# Altium footprint library Screw-M2.PcbLib: 49 footprints (part 3 of 4)
Each footprint in its own frame and in the unit in brackets; x right, y up, seen from the top. Pads: shape width x height; smd on the part's side, far side on the other; paste and mask are expansions set on the pad; w line width, h text height; cw(c..) or ccw(c..) is an arc to the next point about the centre after c.
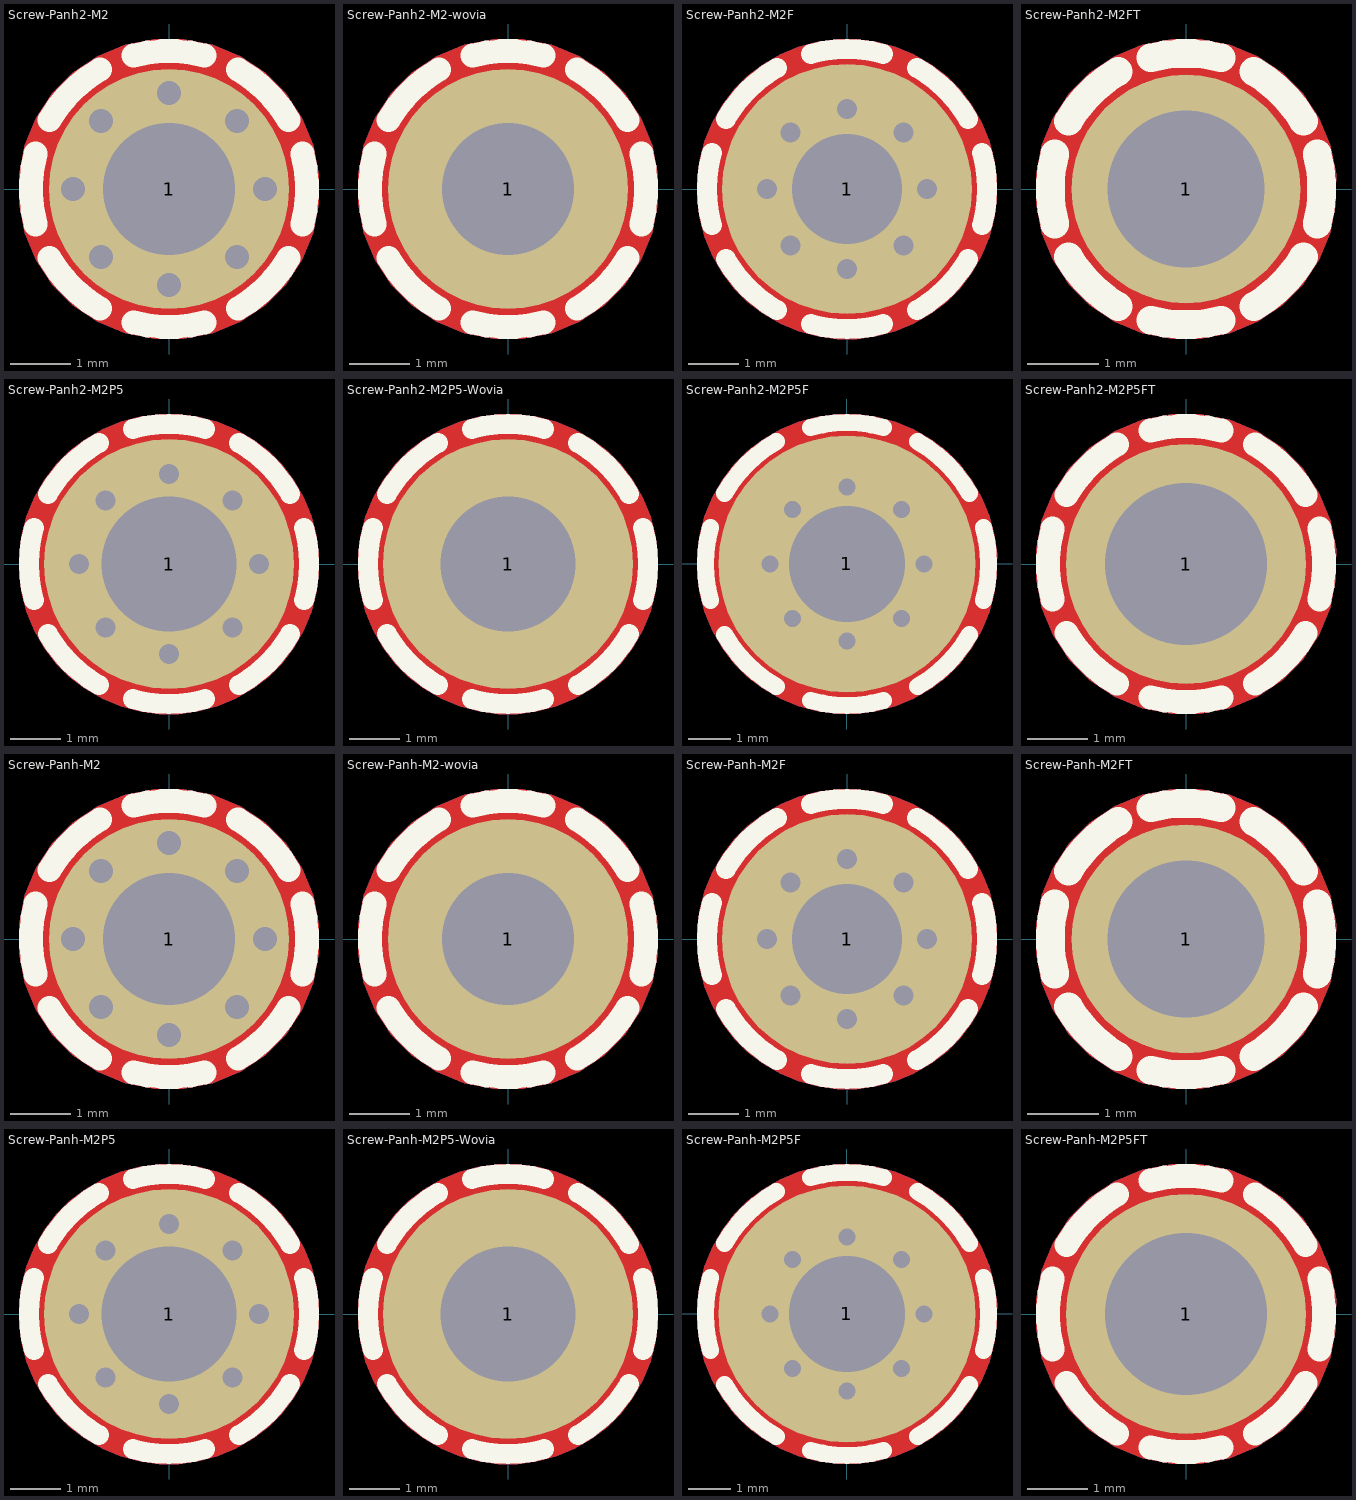
[diagram p2: the footprints below, top view; thin cyan lines are the x and y axes]

## Screw-Panh2-M2 [mm] "Screw, hole diameter 2.2mm, PanHead 4mm"
pads (1):
  round 4 / inner round 2.5 / far side round 4 hole 2.2 mask+0.1: 1(0,0)
via 1.131,1.131 diameter 0.6 hole 0.4
via -1.131,-1.131 diameter 0.6 hole 0.4
via 1.6,0 diameter 0.6 hole 0.4
via -1.6,0 diameter 0.6 hole 0.4
via 1.131,-1.131 diameter 0.6 hole 0.4
via -1.131,1.131 diameter 0.6 hole 0.4
via 0,1.6 diameter 0.6 hole 0.4
via 0,-1.6 diameter 0.6 hole 0.4
Top Layer:
  pour cut-out: 0,2.5 -0.246,2.5 -0.729,2.404 -1.184,2.216 -1.594,1.942 -1.942,1.594 -2.216,1.184 -2.404,0.729 -2.5,0.246 -2.5,0 -2.5,-0.246 -2.404,-0.729 -2.215,-1.184 -1.942,-1.594 -1.594,-1.942 -1.184,-2.215 -0.729,-2.404 -0.246,-2.5 0,-2.5 0.246,-2.5 0.729,-2.404 1.184,-2.215 1.594,-1.942 1.942,-1.594 2.215,-1.184 2.404,-0.729 2.5,-0.246 2.5,0 2.5,0.246 2.404,0.729 2.215,1.184 1.942,1.594 1.594,1.942 1.184,2.216 0.729,2.404 0.246,2.5
Bottom Layer:
  pour cut-out: 0,2.5 -0.246,2.5 -0.729,2.404 -1.184,2.216 -1.594,1.942 -1.942,1.594 -2.216,1.184 -2.404,0.729 -2.5,0.246 -2.5,0 -2.5,-0.246 -2.404,-0.729 -2.215,-1.184 -1.942,-1.594 -1.594,-1.942 -1.184,-2.215 -0.729,-2.404 -0.246,-2.5 0,-2.5 0.246,-2.5 0.729,-2.404 1.184,-2.215 1.594,-1.942 1.942,-1.594 2.215,-1.184 2.404,-0.729 2.5,-0.246 2.5,0 2.5,0.246 2.404,0.729 2.215,1.184 1.942,1.594 1.594,1.942 1.184,2.216 0.729,2.404 0.246,2.5
Top Overlay:
  lines w0.4: -2.222,-0.595 cw(c0,0) -2.222,0.595 ; -1.992,-1.15 ccw(c0,0) -1.15,-1.992 ; -1.992,1.15 cw(c0,0) -1.15,1.992 ; -0.595,-2.222 ccw(c0,0) 0.595,-2.222 ; -0.595,2.222 cw(c0,0) 0.595,2.222 ; 1.15,-1.992 ccw(c0,0) 1.992,-1.15 ; 1.15,1.992 cw(c0,0) 1.992,1.15 ; 2.222,-0.595 ccw(c0,0) 2.222,0.595
3D body "screw_m2x4.stp": height 1.57, standoff -4, extent -2,-2 2,2

## Screw-Panh2-M2-wovia [mm] "Screw, hole diameter 2.2mm, PanHead 4mm"
pads (1):
  round 4 / inner round 2.5 / far side round 4 hole 2.2 mask+0.1: 1(0,0)
Top Layer:
  pour cut-out: 0,2.5 -0.246,2.5 -0.729,2.404 -1.184,2.216 -1.594,1.942 -1.942,1.594 -2.216,1.184 -2.404,0.729 -2.5,0.246 -2.5,0 -2.5,-0.246 -2.404,-0.729 -2.215,-1.184 -1.942,-1.594 -1.594,-1.942 -1.184,-2.215 -0.729,-2.404 -0.246,-2.5 0,-2.5 0.246,-2.5 0.729,-2.404 1.184,-2.215 1.594,-1.942 1.942,-1.594 2.215,-1.184 2.404,-0.729 2.5,-0.246 2.5,0 2.5,0.246 2.404,0.729 2.215,1.184 1.942,1.594 1.594,1.942 1.184,2.216 0.729,2.404 0.246,2.5
Bottom Layer:
  pour cut-out: 0,2.5 -0.246,2.5 -0.729,2.404 -1.184,2.216 -1.594,1.942 -1.942,1.594 -2.216,1.184 -2.404,0.729 -2.5,0.246 -2.5,0 -2.5,-0.246 -2.404,-0.729 -2.215,-1.184 -1.942,-1.594 -1.594,-1.942 -1.184,-2.215 -0.729,-2.404 -0.246,-2.5 0,-2.5 0.246,-2.5 0.729,-2.404 1.184,-2.215 1.594,-1.942 1.942,-1.594 2.215,-1.184 2.404,-0.729 2.5,-0.246 2.5,0 2.5,0.246 2.404,0.729 2.215,1.184 1.942,1.594 1.594,1.942 1.184,2.216 0.729,2.404 0.246,2.5
Top Overlay:
  lines w0.4: -2.222,-0.595 cw(c0,0) -2.222,0.595 ; -1.992,-1.15 ccw(c0,0) -1.15,-1.992 ; -1.992,1.15 cw(c0,0) -1.15,1.992 ; -0.595,-2.222 ccw(c0,0) 0.595,-2.222 ; -0.595,2.222 cw(c0,0) 0.595,2.222 ; 1.15,-1.992 ccw(c0,0) 1.992,-1.15 ; 1.15,1.992 cw(c0,0) 1.992,1.15 ; 2.222,-0.595 ccw(c0,0) 2.222,0.595
3D body "screw_m2x4.stp": height 1.57, standoff -4, extent -2,-2 2,2

## Screw-Panh2-M2F [mm] "Screw, hole diameter 2.2mm, PanHead 5mm"
pads (1):
  round 5 / inner round 2.5 / far side round 5 hole 2.2 mask+0.1: 1(0,0)
via 0,-1.6 diameter 0.6 hole 0.4
via 0,1.6 diameter 0.6 hole 0.4
via -1.131,1.131 diameter 0.6 hole 0.4
via 1.131,-1.131 diameter 0.6 hole 0.4
via -1.6,0 diameter 0.6 hole 0.4
via 1.6,0 diameter 0.6 hole 0.4
via -1.131,-1.131 diameter 0.6 hole 0.4
via 1.131,1.131 diameter 0.6 hole 0.4
Top Layer:
  pour cut-out: 0,3 -0.197,3 -0.587,2.949 -0.966,2.847 -1.33,2.696 -1.67,2.5 -1.982,2.26 -2.26,1.982 -2.5,1.67 -2.696,1.33 -2.847,0.966 -2.949,0.587 -3,0.197 -3,0 -3,-0.197 -2.949,-0.586 -2.847,-0.966 -2.696,-1.33 -2.5,-1.67 -2.26,-1.982 -1.982,-2.26 -1.67,-2.5 -1.33,-2.696 -0.966,-2.847 -0.587,-2.949 -0.197,-3 0,-3 0.197,-3 0.586,-2.949 0.966,-2.847 1.33,-2.696 1.67,-2.5 1.982,-2.26 2.26,-1.982 2.5,-1.67 2.696,-1.33 2.847,-0.966 2.949,-0.587 3,-0.197 3,0 3,0.197 2.949,0.587 2.847,0.966 2.696,1.33 2.5,1.67 2.26,1.982 1.982,2.26 1.67,2.5 1.33,2.696 0.966,2.847 0.587,2.949 0.197,3
Bottom Layer:
  pour cut-out: 0,3 -0.197,3 -0.587,2.949 -0.966,2.847 -1.33,2.696 -1.67,2.5 -1.982,2.26 -2.26,1.982 -2.5,1.67 -2.696,1.33 -2.847,0.966 -2.949,0.587 -3,0.197 -3,0 -3,-0.197 -2.949,-0.586 -2.847,-0.966 -2.696,-1.33 -2.5,-1.67 -2.26,-1.982 -1.982,-2.26 -1.67,-2.5 -1.33,-2.696 -0.966,-2.847 -0.587,-2.949 -0.197,-3 0,-3 0.197,-3 0.586,-2.949 0.966,-2.847 1.33,-2.696 1.67,-2.5 1.982,-2.26 2.26,-1.982 2.5,-1.67 2.696,-1.33 2.847,-0.966 2.949,-0.587 3,-0.197 3,0 3,0.197 2.949,0.587 2.847,0.966 2.696,1.33 2.5,1.67 2.26,1.982 1.982,2.26 1.67,2.5 1.33,2.696 0.966,2.847 0.587,2.949 0.197,3
Top Overlay:
  lines w0.4: -2.705,-0.725 cw(c0,0) -2.705,0.725 ; -2.425,-1.4 ccw(c0,0) -1.4,-2.425 ; -2.425,1.4 cw(c0,0) -1.4,2.425 ; -0.725,-2.705 ccw(c0,0) 0.725,-2.705 ; -0.725,2.705 cw(c0,0) 0.725,2.705 ; 1.4,-2.425 ccw(c0,0) 2.425,-1.4 ; 1.4,2.425 cw(c0,0) 2.425,1.4 ; 2.705,-0.725 ccw(c0,0) 2.705,0.725
3D body "screw_m2x4.stp": height 1.57, standoff -4, extent -2,-2 2,2

## Screw-Panh2-M2FT [mm] "Screw, hole diameter 2.2mm, PanHead 3.2mm"
pads (1):
  round 3.2 / inner round 2.5 / far side round 3.2 hole 2.2 mask+0.1: 1(0,0)
Top Layer:
  pour cut-out: 0,2.1 -0.207,2.1 -0.613,2.019 -0.995,1.861 -1.339,1.631 -1.631,1.339 -1.861,0.995 -2.019,0.613 -2.1,0.207 -2.1,0 -2.1,-0.207 -2.019,-0.613 -1.861,-0.995 -1.631,-1.339 -1.339,-1.631 -0.995,-1.861 -0.613,-2.019 -0.207,-2.1 0,-2.1 0.207,-2.1 0.613,-2.019 0.995,-1.861 1.339,-1.631 1.631,-1.339 1.861,-0.995 2.019,-0.612 2.1,-0.207 2.1,0 2.1,0.207 2.019,0.613 1.861,0.995 1.631,1.339 1.339,1.631 0.995,1.861 0.613,2.019 0.207,2.1
Bottom Layer:
  pour cut-out: 0,2.1 -0.207,2.1 -0.613,2.019 -0.995,1.861 -1.339,1.631 -1.631,1.339 -1.861,0.995 -2.019,0.613 -2.1,0.207 -2.1,0 -2.1,-0.207 -2.019,-0.613 -1.861,-0.995 -1.631,-1.339 -1.339,-1.631 -0.995,-1.861 -0.613,-2.019 -0.207,-2.1 0,-2.1 0.207,-2.1 0.613,-2.019 0.995,-1.861 1.339,-1.631 1.631,-1.339 1.861,-0.995 2.019,-0.612 2.1,-0.207 2.1,0 2.1,0.207 2.019,0.613 1.861,0.995 1.631,1.339 1.339,1.631 0.995,1.861 0.613,2.019 0.207,2.1
Top Overlay:
  lines w0.4: -1.835,-0.492 cw(c0,0) -1.835,0.492 ; -1.645,-0.95 ccw(c0,0) -0.95,-1.645 ; -1.645,0.95 cw(c0,0) -0.95,1.645 ; -0.492,-1.835 ccw(c0,0) 0.492,-1.835 ; -0.492,1.835 cw(c0,0) 0.492,1.835 ; 0.95,-1.645 ccw(c0,0) 1.645,-0.95 ; 0.95,1.645 cw(c0,0) 1.645,0.95 ; 1.835,-0.492 ccw(c0,0) 1.835,0.492
3D body "screw_m2x4.stp": height 1.57, standoff -4, extent -2,-2 2,2

## Screw-Panh2-M2P5 [mm] "Screw, hole diameter 2.7mm, PanHead 5mm"
pads (1):
  round 5 / inner round 3 / far side round 5 hole 2.7 mask+0.1: 1(0,0)
via -1.273,-1.273 diameter 0.6 hole 0.4
via 1.273,1.273 diameter 0.6 hole 0.4
via -1.8,0 diameter 0.6 hole 0.4
via 1.8,0 diameter 0.6 hole 0.4
via -1.273,1.273 diameter 0.6 hole 0.4
via 1.273,-1.273 diameter 0.6 hole 0.4
via 0,-1.8 diameter 0.6 hole 0.4
via 0,1.8 diameter 0.6 hole 0.4
Top Layer:
  pour cut-out: 0,3 -0.197,3 -0.587,2.949 -0.966,2.847 -1.33,2.696 -1.67,2.5 -1.982,2.26 -2.26,1.982 -2.5,1.67 -2.696,1.33 -2.847,0.966 -2.949,0.587 -3,0.197 -3,0 -3,-0.197 -2.949,-0.586 -2.847,-0.966 -2.696,-1.33 -2.5,-1.67 -2.26,-1.982 -1.982,-2.26 -1.67,-2.5 -1.33,-2.696 -0.966,-2.847 -0.587,-2.949 -0.197,-3 0,-3 0.197,-3 0.586,-2.949 0.966,-2.847 1.33,-2.696 1.67,-2.5 1.982,-2.26 2.26,-1.982 2.5,-1.67 2.696,-1.33 2.847,-0.966 2.949,-0.587 3,-0.197 3,0 3,0.197 2.949,0.587 2.847,0.966 2.696,1.33 2.5,1.67 2.26,1.982 1.982,2.26 1.67,2.5 1.33,2.696 0.966,2.847 0.587,2.949 0.197,3
Bottom Layer:
  pour cut-out: 0,3 -0.197,3 -0.587,2.949 -0.966,2.847 -1.33,2.696 -1.67,2.5 -1.982,2.26 -2.26,1.982 -2.5,1.67 -2.696,1.33 -2.847,0.966 -2.949,0.587 -3,0.197 -3,0 -3,-0.197 -2.949,-0.586 -2.847,-0.966 -2.696,-1.33 -2.5,-1.67 -2.26,-1.982 -1.982,-2.26 -1.67,-2.5 -1.33,-2.696 -0.966,-2.847 -0.587,-2.949 -0.197,-3 0,-3 0.197,-3 0.586,-2.949 0.966,-2.847 1.33,-2.696 1.67,-2.5 1.982,-2.26 2.26,-1.982 2.5,-1.67 2.696,-1.33 2.847,-0.966 2.949,-0.587 3,-0.197 3,0 3,0.197 2.949,0.587 2.847,0.966 2.696,1.33 2.5,1.67 2.26,1.982 1.982,2.26 1.67,2.5 1.33,2.696 0.966,2.847 0.587,2.949 0.197,3
Top Overlay:
  lines w0.4: -2.705,-0.725 cw(c0,0) -2.705,0.725 ; -2.425,-1.4 ccw(c0,0) -1.4,-2.425 ; -2.425,1.4 cw(c0,0) -1.4,2.425 ; -0.725,-2.705 ccw(c0,0) 0.725,-2.705 ; -0.725,2.705 cw(c0,0) 0.725,2.705 ; 1.4,-2.425 ccw(c0,0) 2.425,-1.4 ; 1.4,2.425 cw(c0,0) 2.425,1.4 ; 2.705,-0.725 ccw(c0,0) 2.705,0.725
3D body "screw_m2x4.stp": height 1.57, standoff -4, extent -2,-2 2,2

## Screw-Panh2-M2P5-Wovia [mm] "Screw, hole diameter 2.7mm, PanHead 5mm"
pads (1):
  round 5 / inner round 3 / far side round 5 hole 2.7 mask+0.1: 1(0,0)
Top Layer:
  pour cut-out: 0,3 -0.197,3 -0.587,2.949 -0.966,2.847 -1.33,2.696 -1.67,2.5 -1.982,2.26 -2.26,1.982 -2.5,1.67 -2.696,1.33 -2.847,0.966 -2.949,0.587 -3,0.197 -3,0 -3,-0.197 -2.949,-0.586 -2.847,-0.966 -2.696,-1.33 -2.5,-1.67 -2.26,-1.982 -1.982,-2.26 -1.67,-2.5 -1.33,-2.696 -0.966,-2.847 -0.587,-2.949 -0.197,-3 0,-3 0.197,-3 0.586,-2.949 0.966,-2.847 1.33,-2.696 1.67,-2.5 1.982,-2.26 2.26,-1.982 2.5,-1.67 2.696,-1.33 2.847,-0.966 2.949,-0.587 3,-0.197 3,0 3,0.197 2.949,0.587 2.847,0.966 2.696,1.33 2.5,1.67 2.26,1.982 1.982,2.26 1.67,2.5 1.33,2.696 0.966,2.847 0.587,2.949 0.197,3
Bottom Layer:
  pour cut-out: 0,3 -0.197,3 -0.587,2.949 -0.966,2.847 -1.33,2.696 -1.67,2.5 -1.982,2.26 -2.26,1.982 -2.5,1.67 -2.696,1.33 -2.847,0.966 -2.949,0.587 -3,0.197 -3,0 -3,-0.197 -2.949,-0.586 -2.847,-0.966 -2.696,-1.33 -2.5,-1.67 -2.26,-1.982 -1.982,-2.26 -1.67,-2.5 -1.33,-2.696 -0.966,-2.847 -0.587,-2.949 -0.197,-3 0,-3 0.197,-3 0.586,-2.949 0.966,-2.847 1.33,-2.696 1.67,-2.5 1.982,-2.26 2.26,-1.982 2.5,-1.67 2.696,-1.33 2.847,-0.966 2.949,-0.587 3,-0.197 3,0 3,0.197 2.949,0.587 2.847,0.966 2.696,1.33 2.5,1.67 2.26,1.982 1.982,2.26 1.67,2.5 1.33,2.696 0.966,2.847 0.587,2.949 0.197,3
Top Overlay:
  lines w0.4: -2.705,-0.725 cw(c0,0) -2.705,0.725 ; -2.425,-1.4 ccw(c0,0) -1.4,-2.425 ; -2.425,1.4 cw(c0,0) -1.4,2.425 ; -0.725,-2.705 ccw(c0,0) 0.725,-2.705 ; -0.725,2.705 cw(c0,0) 0.725,2.705 ; 1.4,-2.425 ccw(c0,0) 2.425,-1.4 ; 1.4,2.425 cw(c0,0) 2.425,1.4 ; 2.705,-0.725 ccw(c0,0) 2.705,0.725
3D body "screw_m2x4.stp": height 1.57, standoff -4, extent -2,-2 2,2

## Screw-Panh2-M2P5F [mm] "Screw, hole diameter 2.7mm, PanHead 6mm"
pads (1):
  round 6 / inner round 3 / far side round 6 hole 2.7 mask+0.1: 1(0,0)
via 0,1.8 diameter 0.6 hole 0.4
via 0,-1.8 diameter 0.6 hole 0.4
via 1.273,-1.273 diameter 0.6 hole 0.4
via -1.273,1.273 diameter 0.6 hole 0.4
via 1.8,0 diameter 0.6 hole 0.4
via -1.8,0 diameter 0.6 hole 0.4
via 1.273,1.273 diameter 0.6 hole 0.4
via -1.273,-1.273 diameter 0.6 hole 0.4
Top Layer:
  pour cut-out: 0,3.5 -0.229,3.5 -0.684,3.44 -1.127,3.321 -1.551,3.146 -1.949,2.916 -2.313,2.637 -2.637,2.313 -2.916,1.949 -3.146,1.551 -3.321,1.127 -3.44,0.684 -3.5,0.229 -3.5,0 -3.5,-0.229 -3.44,-0.684 -3.321,-1.127 -3.146,-1.551 -2.916,-1.949 -2.637,-2.313 -2.313,-2.637 -1.949,-2.916 -1.551,-3.146 -1.127,-3.321 -0.684,-3.44 -0.229,-3.5 0,-3.5 0.229,-3.5 0.684,-3.44 1.127,-3.321 1.551,-3.146 1.949,-2.916 2.313,-2.637 2.637,-2.313 2.916,-1.949 3.146,-1.551 3.321,-1.127 3.44,-0.684 3.5,-0.229 3.5,0 3.5,0.229 3.44,0.684 3.321,1.127 3.146,1.551 2.916,1.949 2.637,2.313 2.313,2.637 1.949,2.916 1.551,3.146 1.127,3.321 0.684,3.44 0.229,3.5
Bottom Layer:
  pour cut-out: 0,3.5 -0.229,3.5 -0.684,3.44 -1.127,3.321 -1.551,3.146 -1.949,2.916 -2.313,2.637 -2.637,2.313 -2.916,1.949 -3.146,1.551 -3.321,1.127 -3.44,0.684 -3.5,0.229 -3.5,0 -3.5,-0.229 -3.44,-0.684 -3.321,-1.127 -3.146,-1.551 -2.916,-1.949 -2.637,-2.313 -2.313,-2.637 -1.949,-2.916 -1.551,-3.146 -1.127,-3.321 -0.684,-3.44 -0.229,-3.5 0,-3.5 0.229,-3.5 0.684,-3.44 1.127,-3.321 1.551,-3.146 1.949,-2.916 2.313,-2.637 2.637,-2.313 2.916,-1.949 3.146,-1.551 3.321,-1.127 3.44,-0.684 3.5,-0.229 3.5,0 3.5,0.229 3.44,0.684 3.321,1.127 3.146,1.551 2.916,1.949 2.637,2.313 2.313,2.637 1.949,2.916 1.551,3.146 1.127,3.321 0.684,3.44 0.229,3.5
Top Overlay:
  lines w0.4: -3.188,-0.854 cw(c0,0) -3.188,0.854 ; -2.858,-1.65 ccw(c0,0) -1.65,-2.858 ; -2.858,1.65 cw(c0,0) -1.65,2.858 ; -0.854,-3.188 ccw(c0,0) 0.854,-3.188 ; -0.854,3.188 cw(c0,0) 0.854,3.188 ; 1.65,-2.858 ccw(c0,0) 2.858,-1.65 ; 1.65,2.858 cw(c0,0) 2.858,1.65 ; 3.188,-0.854 ccw(c0,0) 3.188,0.854
3D body "screw_m2x4.stp": height 1.57, standoff -4, extent -2,-2 2,2

## Screw-Panh2-M2P5FT [mm] "Screw, hole diameter 2.7mm, PanHead 4mm"
pads (1):
  round 4 / inner round 3 / far side round 4 hole 2.7 mask+0.1: 1(0,0)
Top Layer:
  pour cut-out: 0,2.5 -0.246,2.5 -0.729,2.404 -1.184,2.215 -1.594,1.942 -1.942,1.594 -2.216,1.184 -2.404,0.729 -2.5,0.246 -2.5,0 -2.5,-0.246 -2.404,-0.729 -2.215,-1.184 -1.942,-1.594 -1.594,-1.942 -1.184,-2.215 -0.729,-2.404 -0.246,-2.5 0,-2.5 0.246,-2.5 0.729,-2.404 1.184,-2.215 1.594,-1.942 1.942,-1.594 2.215,-1.184 2.404,-0.729 2.5,-0.246 2.5,0 2.5,0.246 2.404,0.729 2.215,1.184 1.942,1.594 1.594,1.942 1.184,2.215 0.729,2.404 0.246,2.5
Bottom Layer:
  pour cut-out: 0,2.5 -0.246,2.5 -0.729,2.404 -1.184,2.215 -1.594,1.942 -1.942,1.594 -2.216,1.184 -2.404,0.729 -2.5,0.246 -2.5,0 -2.5,-0.246 -2.404,-0.729 -2.215,-1.184 -1.942,-1.594 -1.594,-1.942 -1.184,-2.215 -0.729,-2.404 -0.246,-2.5 0,-2.5 0.246,-2.5 0.729,-2.404 1.184,-2.215 1.594,-1.942 1.942,-1.594 2.215,-1.184 2.404,-0.729 2.5,-0.246 2.5,0 2.5,0.246 2.404,0.729 2.215,1.184 1.942,1.594 1.594,1.942 1.184,2.215 0.729,2.404 0.246,2.5
Top Overlay:
  lines w0.4: -2.222,-0.595 cw(c0,0) -2.222,0.595 ; -1.992,-1.15 ccw(c0,0) -1.15,-1.992 ; -1.992,1.15 cw(c0,0) -1.15,1.992 ; -0.595,-2.222 ccw(c0,0) 0.595,-2.222 ; -0.595,2.222 cw(c0,0) 0.595,2.222 ; 1.15,-1.992 ccw(c0,0) 1.992,-1.15 ; 1.15,1.992 cw(c0,0) 1.992,1.15 ; 2.222,-0.595 ccw(c0,0) 2.222,0.595
3D body "screw_m2x4.stp": height 1.57, standoff -4, extent -2,-2 2,2

## Screw-Panh-M2 [mm] "Screw, hole diameter 2.2mm, PanHead 4mm"
pads (1):
  round 4 / inner round 2.5 / far side round 4 hole 2.2 mask+0.1: 1(0,0)
via 1.131,1.131 diameter 0.6 hole 0.4
via -1.131,-1.131 diameter 0.6 hole 0.4
via 1.6,0 diameter 0.6 hole 0.4
via -1.6,0 diameter 0.6 hole 0.4
via 1.131,-1.131 diameter 0.6 hole 0.4
via -1.131,1.131 diameter 0.6 hole 0.4
via 0,1.6 diameter 0.6 hole 0.4
via 0,-1.6 diameter 0.6 hole 0.4
Top Layer:
  pour cut-out: 0,2.5 -0.246,2.5 -0.729,2.404 -1.184,2.216 -1.594,1.942 -1.942,1.594 -2.216,1.184 -2.404,0.729 -2.5,0.246 -2.5,0 -2.5,-0.246 -2.404,-0.729 -2.215,-1.184 -1.942,-1.594 -1.594,-1.942 -1.184,-2.215 -0.729,-2.404 -0.246,-2.5 0,-2.5 0.246,-2.5 0.729,-2.404 1.184,-2.215 1.594,-1.942 1.942,-1.594 2.215,-1.184 2.404,-0.729 2.5,-0.246 2.5,0 2.5,0.246 2.404,0.729 2.215,1.184 1.942,1.594 1.594,1.942 1.184,2.216 0.729,2.404 0.246,2.5
Bottom Layer:
  pour cut-out: 0,2.5 -0.246,2.5 -0.729,2.404 -1.184,2.216 -1.594,1.942 -1.942,1.594 -2.216,1.184 -2.404,0.729 -2.5,0.246 -2.5,0 -2.5,-0.246 -2.404,-0.729 -2.215,-1.184 -1.942,-1.594 -1.594,-1.942 -1.184,-2.215 -0.729,-2.404 -0.246,-2.5 0,-2.5 0.246,-2.5 0.729,-2.404 1.184,-2.215 1.594,-1.942 1.942,-1.594 2.215,-1.184 2.404,-0.729 2.5,-0.246 2.5,0 2.5,0.246 2.404,0.729 2.215,1.184 1.942,1.594 1.594,1.942 1.184,2.216 0.729,2.404 0.246,2.5
Top Overlay:
  lines w0.4: -2.222,-0.595 cw(c0,0) -2.222,0.595 ; -1.992,-1.15 ccw(c0,0) -1.15,-1.992 ; -1.992,1.15 cw(c0,0) -1.15,1.992 ; -0.595,-2.222 ccw(c0,0) 0.595,-2.222 ; -0.595,2.222 cw(c0,0) 0.595,2.222 ; 1.15,-1.992 ccw(c0,0) 1.992,-1.15 ; 1.15,1.992 cw(c0,0) 1.992,1.15 ; 2.222,-0.595 ccw(c0,0) 2.222,0.595
3D body "screw_iso7045-m2_5x5-h.stp": height 2.35, standoff -4.7, extent -2.5,-2.5 2.5,2.5

## Screw-Panh-M2-wovia [mm] "Screw, hole diameter 2.2mm, PanHead 4mm"
pads (1):
  round 4 / inner round 2.5 / far side round 4 hole 2.2 mask+0.1: 1(0,0)
Top Layer:
  pour cut-out: 0,2.5 -0.246,2.5 -0.729,2.404 -1.184,2.216 -1.594,1.942 -1.942,1.594 -2.216,1.184 -2.404,0.729 -2.5,0.246 -2.5,0 -2.5,-0.246 -2.404,-0.729 -2.215,-1.184 -1.942,-1.594 -1.594,-1.942 -1.184,-2.215 -0.729,-2.404 -0.246,-2.5 0,-2.5 0.246,-2.5 0.729,-2.404 1.184,-2.215 1.594,-1.942 1.942,-1.594 2.215,-1.184 2.404,-0.729 2.5,-0.246 2.5,0 2.5,0.246 2.404,0.729 2.215,1.184 1.942,1.594 1.594,1.942 1.184,2.216 0.729,2.404 0.246,2.5
Bottom Layer:
  pour cut-out: 0,2.5 -0.246,2.5 -0.729,2.404 -1.184,2.216 -1.594,1.942 -1.942,1.594 -2.216,1.184 -2.404,0.729 -2.5,0.246 -2.5,0 -2.5,-0.246 -2.404,-0.729 -2.215,-1.184 -1.942,-1.594 -1.594,-1.942 -1.184,-2.215 -0.729,-2.404 -0.246,-2.5 0,-2.5 0.246,-2.5 0.729,-2.404 1.184,-2.215 1.594,-1.942 1.942,-1.594 2.215,-1.184 2.404,-0.729 2.5,-0.246 2.5,0 2.5,0.246 2.404,0.729 2.215,1.184 1.942,1.594 1.594,1.942 1.184,2.216 0.729,2.404 0.246,2.5
Top Overlay:
  lines w0.4: -2.222,-0.595 cw(c0,0) -2.222,0.595 ; -1.992,-1.15 ccw(c0,0) -1.15,-1.992 ; -1.992,1.15 cw(c0,0) -1.15,1.992 ; -0.595,-2.222 ccw(c0,0) 0.595,-2.222 ; -0.595,2.222 cw(c0,0) 0.595,2.222 ; 1.15,-1.992 ccw(c0,0) 1.992,-1.15 ; 1.15,1.992 cw(c0,0) 1.992,1.15 ; 2.222,-0.595 ccw(c0,0) 2.222,0.595
3D body "screw_iso7045-m2_5x5-h.stp": height 2.35, standoff -4.7, extent -2.5,-2.5 2.5,2.5

## Screw-Panh-M2F [mm] "Screw, hole diameter 2.2mm, PanHead 5mm"
pads (1):
  round 5 / inner round 2.5 / far side round 5 hole 2.2 mask+0.1: 1(0,0)
via 0,-1.6 diameter 0.6 hole 0.4
via 0,1.6 diameter 0.6 hole 0.4
via -1.131,1.131 diameter 0.6 hole 0.4
via 1.131,-1.131 diameter 0.6 hole 0.4
via -1.6,0 diameter 0.6 hole 0.4
via 1.6,0 diameter 0.6 hole 0.4
via -1.131,-1.131 diameter 0.6 hole 0.4
via 1.131,1.131 diameter 0.6 hole 0.4
Top Layer:
  pour cut-out: 0,3 -0.197,3 -0.587,2.949 -0.966,2.847 -1.33,2.696 -1.67,2.5 -1.982,2.26 -2.26,1.982 -2.5,1.67 -2.696,1.33 -2.847,0.966 -2.949,0.587 -3,0.197 -3,0 -3,-0.197 -2.949,-0.586 -2.847,-0.966 -2.696,-1.33 -2.5,-1.67 -2.26,-1.982 -1.982,-2.26 -1.67,-2.5 -1.33,-2.696 -0.966,-2.847 -0.587,-2.949 -0.197,-3 0,-3 0.197,-3 0.586,-2.949 0.966,-2.847 1.33,-2.696 1.67,-2.5 1.982,-2.26 2.26,-1.982 2.5,-1.67 2.696,-1.33 2.847,-0.966 2.949,-0.587 3,-0.197 3,0 3,0.197 2.949,0.587 2.847,0.966 2.696,1.33 2.5,1.67 2.26,1.982 1.982,2.26 1.67,2.5 1.33,2.696 0.966,2.847 0.587,2.949 0.197,3
Bottom Layer:
  pour cut-out: 0,3 -0.197,3 -0.587,2.949 -0.966,2.847 -1.33,2.696 -1.67,2.5 -1.982,2.26 -2.26,1.982 -2.5,1.67 -2.696,1.33 -2.847,0.966 -2.949,0.587 -3,0.197 -3,0 -3,-0.197 -2.949,-0.586 -2.847,-0.966 -2.696,-1.33 -2.5,-1.67 -2.26,-1.982 -1.982,-2.26 -1.67,-2.5 -1.33,-2.696 -0.966,-2.847 -0.587,-2.949 -0.197,-3 0,-3 0.197,-3 0.586,-2.949 0.966,-2.847 1.33,-2.696 1.67,-2.5 1.982,-2.26 2.26,-1.982 2.5,-1.67 2.696,-1.33 2.847,-0.966 2.949,-0.587 3,-0.197 3,0 3,0.197 2.949,0.587 2.847,0.966 2.696,1.33 2.5,1.67 2.26,1.982 1.982,2.26 1.67,2.5 1.33,2.696 0.966,2.847 0.587,2.949 0.197,3
Top Overlay:
  lines w0.4: -2.705,-0.725 cw(c0,0) -2.705,0.725 ; -2.425,-1.4 ccw(c0,0) -1.4,-2.425 ; -2.425,1.4 cw(c0,0) -1.4,2.425 ; -0.725,-2.705 ccw(c0,0) 0.725,-2.705 ; -0.725,2.705 cw(c0,0) 0.725,2.705 ; 1.4,-2.425 ccw(c0,0) 2.425,-1.4 ; 1.4,2.425 cw(c0,0) 2.425,1.4 ; 2.705,-0.725 ccw(c0,0) 2.705,0.725
3D body "screw_iso7045-m2_5x5-h.stp": height 2.35, standoff -4.7, extent -2.5,-2.5 2.5,2.5

## Screw-Panh-M2FT [mm] "Screw, hole diameter 2.2mm, PanHead 3.2mm"
pads (1):
  round 3.2 / inner round 2.5 / far side round 3.2 hole 2.2 mask+0.1: 1(0,0)
Top Layer:
  pour cut-out: 0,2.1 -0.207,2.1 -0.613,2.019 -0.995,1.861 -1.339,1.631 -1.631,1.339 -1.861,0.995 -2.019,0.613 -2.1,0.207 -2.1,0 -2.1,-0.207 -2.019,-0.613 -1.861,-0.995 -1.631,-1.339 -1.339,-1.631 -0.995,-1.861 -0.613,-2.019 -0.207,-2.1 0,-2.1 0.207,-2.1 0.613,-2.019 0.995,-1.861 1.339,-1.631 1.631,-1.339 1.861,-0.995 2.019,-0.612 2.1,-0.207 2.1,0 2.1,0.207 2.019,0.613 1.861,0.995 1.631,1.339 1.339,1.631 0.995,1.861 0.613,2.019 0.207,2.1
Bottom Layer:
  pour cut-out: 0,2.1 -0.207,2.1 -0.613,2.019 -0.995,1.861 -1.339,1.631 -1.631,1.339 -1.861,0.995 -2.019,0.613 -2.1,0.207 -2.1,0 -2.1,-0.207 -2.019,-0.613 -1.861,-0.995 -1.631,-1.339 -1.339,-1.631 -0.995,-1.861 -0.613,-2.019 -0.207,-2.1 0,-2.1 0.207,-2.1 0.613,-2.019 0.995,-1.861 1.339,-1.631 1.631,-1.339 1.861,-0.995 2.019,-0.612 2.1,-0.207 2.1,0 2.1,0.207 2.019,0.613 1.861,0.995 1.631,1.339 1.339,1.631 0.995,1.861 0.613,2.019 0.207,2.1
Top Overlay:
  lines w0.4: -1.835,-0.492 cw(c0,0) -1.835,0.492 ; -1.645,-0.95 ccw(c0,0) -0.95,-1.645 ; -1.645,0.95 cw(c0,0) -0.95,1.645 ; -0.492,-1.835 ccw(c0,0) 0.492,-1.835 ; -0.492,1.835 cw(c0,0) 0.492,1.835 ; 0.95,-1.645 ccw(c0,0) 1.645,-0.95 ; 0.95,1.645 cw(c0,0) 1.645,0.95 ; 1.835,-0.492 ccw(c0,0) 1.835,0.492
3D body "screw_iso7045-m2_5x5-h.stp": height 2.35, standoff -4.7, extent -2.5,-2.5 2.5,2.5

## Screw-Panh-M2P5 [mm] "Screw, hole diameter 2.7mm, PanHead 5mm"
pads (1):
  round 5 / inner round 3 / far side round 5 hole 2.7 mask+0.1: 1(0,0)
via -1.273,-1.273 diameter 0.6 hole 0.4
via 1.273,1.273 diameter 0.6 hole 0.4
via -1.8,0 diameter 0.6 hole 0.4
via 1.8,0 diameter 0.6 hole 0.4
via -1.273,1.273 diameter 0.6 hole 0.4
via 1.273,-1.273 diameter 0.6 hole 0.4
via 0,-1.8 diameter 0.6 hole 0.4
via 0,1.8 diameter 0.6 hole 0.4
Top Layer:
  pour cut-out: 0,3 -0.197,3 -0.587,2.949 -0.966,2.847 -1.33,2.696 -1.67,2.5 -1.982,2.26 -2.26,1.982 -2.5,1.67 -2.696,1.33 -2.847,0.966 -2.949,0.587 -3,0.197 -3,0 -3,-0.197 -2.949,-0.586 -2.847,-0.966 -2.696,-1.33 -2.5,-1.67 -2.26,-1.982 -1.982,-2.26 -1.67,-2.5 -1.33,-2.696 -0.966,-2.847 -0.587,-2.949 -0.197,-3 0,-3 0.197,-3 0.586,-2.949 0.966,-2.847 1.33,-2.696 1.67,-2.5 1.982,-2.26 2.26,-1.982 2.5,-1.67 2.696,-1.33 2.847,-0.966 2.949,-0.587 3,-0.197 3,0 3,0.197 2.949,0.587 2.847,0.966 2.696,1.33 2.5,1.67 2.26,1.982 1.982,2.26 1.67,2.5 1.33,2.696 0.966,2.847 0.587,2.949 0.197,3
Bottom Layer:
  pour cut-out: 0,3 -0.197,3 -0.587,2.949 -0.966,2.847 -1.33,2.696 -1.67,2.5 -1.982,2.26 -2.26,1.982 -2.5,1.67 -2.696,1.33 -2.847,0.966 -2.949,0.587 -3,0.197 -3,0 -3,-0.197 -2.949,-0.586 -2.847,-0.966 -2.696,-1.33 -2.5,-1.67 -2.26,-1.982 -1.982,-2.26 -1.67,-2.5 -1.33,-2.696 -0.966,-2.847 -0.587,-2.949 -0.197,-3 0,-3 0.197,-3 0.586,-2.949 0.966,-2.847 1.33,-2.696 1.67,-2.5 1.982,-2.26 2.26,-1.982 2.5,-1.67 2.696,-1.33 2.847,-0.966 2.949,-0.587 3,-0.197 3,0 3,0.197 2.949,0.587 2.847,0.966 2.696,1.33 2.5,1.67 2.26,1.982 1.982,2.26 1.67,2.5 1.33,2.696 0.966,2.847 0.587,2.949 0.197,3
Top Overlay:
  lines w0.4: -2.705,-0.725 cw(c0,0) -2.705,0.725 ; -2.425,-1.4 ccw(c0,0) -1.4,-2.425 ; -2.425,1.4 cw(c0,0) -1.4,2.425 ; -0.725,-2.705 ccw(c0,0) 0.725,-2.705 ; -0.725,2.705 cw(c0,0) 0.725,2.705 ; 1.4,-2.425 ccw(c0,0) 2.425,-1.4 ; 1.4,2.425 cw(c0,0) 2.425,1.4 ; 2.705,-0.725 ccw(c0,0) 2.705,0.725
3D body "screw_iso7045-m2_5x5-h.stp": height 2.35, standoff -4.7, extent -2.5,-2.5 2.5,2.5

## Screw-Panh-M2P5-Wovia [mm] "Screw, hole diameter 2.7mm, PanHead 5mm"
pads (1):
  round 5 / inner round 3 / far side round 5 hole 2.7 mask+0.1: 1(0,0)
Top Layer:
  pour cut-out: 0,3 -0.197,3 -0.587,2.949 -0.966,2.847 -1.33,2.696 -1.67,2.5 -1.982,2.26 -2.26,1.982 -2.5,1.67 -2.696,1.33 -2.847,0.966 -2.949,0.587 -3,0.197 -3,0 -3,-0.197 -2.949,-0.586 -2.847,-0.966 -2.696,-1.33 -2.5,-1.67 -2.26,-1.982 -1.982,-2.26 -1.67,-2.5 -1.33,-2.696 -0.966,-2.847 -0.587,-2.949 -0.197,-3 0,-3 0.197,-3 0.586,-2.949 0.966,-2.847 1.33,-2.696 1.67,-2.5 1.982,-2.26 2.26,-1.982 2.5,-1.67 2.696,-1.33 2.847,-0.966 2.949,-0.587 3,-0.197 3,0 3,0.197 2.949,0.587 2.847,0.966 2.696,1.33 2.5,1.67 2.26,1.982 1.982,2.26 1.67,2.5 1.33,2.696 0.966,2.847 0.587,2.949 0.197,3
Bottom Layer:
  pour cut-out: 0,3 -0.197,3 -0.587,2.949 -0.966,2.847 -1.33,2.696 -1.67,2.5 -1.982,2.26 -2.26,1.982 -2.5,1.67 -2.696,1.33 -2.847,0.966 -2.949,0.587 -3,0.197 -3,0 -3,-0.197 -2.949,-0.586 -2.847,-0.966 -2.696,-1.33 -2.5,-1.67 -2.26,-1.982 -1.982,-2.26 -1.67,-2.5 -1.33,-2.696 -0.966,-2.847 -0.587,-2.949 -0.197,-3 0,-3 0.197,-3 0.586,-2.949 0.966,-2.847 1.33,-2.696 1.67,-2.5 1.982,-2.26 2.26,-1.982 2.5,-1.67 2.696,-1.33 2.847,-0.966 2.949,-0.587 3,-0.197 3,0 3,0.197 2.949,0.587 2.847,0.966 2.696,1.33 2.5,1.67 2.26,1.982 1.982,2.26 1.67,2.5 1.33,2.696 0.966,2.847 0.587,2.949 0.197,3
Top Overlay:
  lines w0.4: -2.705,-0.725 cw(c0,0) -2.705,0.725 ; -2.425,-1.4 ccw(c0,0) -1.4,-2.425 ; -2.425,1.4 cw(c0,0) -1.4,2.425 ; -0.725,-2.705 ccw(c0,0) 0.725,-2.705 ; -0.725,2.705 cw(c0,0) 0.725,2.705 ; 1.4,-2.425 ccw(c0,0) 2.425,-1.4 ; 1.4,2.425 cw(c0,0) 2.425,1.4 ; 2.705,-0.725 ccw(c0,0) 2.705,0.725
3D body "screw_iso7045-m2_5x5-h.stp": height 2.35, standoff -4.7, extent -2.5,-2.5 2.5,2.5

## Screw-Panh-M2P5F [mm] "Screw, hole diameter 2.7mm, PanHead 6mm"
pads (1):
  round 6 / inner round 3 / far side round 6 hole 2.7 mask+0.1: 1(0,0)
via 0,1.8 diameter 0.6 hole 0.4
via 0,-1.8 diameter 0.6 hole 0.4
via 1.273,-1.273 diameter 0.6 hole 0.4
via -1.273,1.273 diameter 0.6 hole 0.4
via 1.8,0 diameter 0.6 hole 0.4
via -1.8,0 diameter 0.6 hole 0.4
via 1.273,1.273 diameter 0.6 hole 0.4
via -1.273,-1.273 diameter 0.6 hole 0.4
Top Layer:
  pour cut-out: 0,3.5 -0.229,3.5 -0.684,3.44 -1.127,3.321 -1.551,3.146 -1.949,2.916 -2.313,2.637 -2.637,2.313 -2.916,1.949 -3.146,1.551 -3.321,1.127 -3.44,0.684 -3.5,0.229 -3.5,0 -3.5,-0.229 -3.44,-0.684 -3.321,-1.127 -3.146,-1.551 -2.916,-1.949 -2.637,-2.313 -2.313,-2.637 -1.949,-2.916 -1.551,-3.146 -1.127,-3.321 -0.684,-3.44 -0.229,-3.5 0,-3.5 0.229,-3.5 0.684,-3.44 1.127,-3.321 1.551,-3.146 1.949,-2.916 2.313,-2.637 2.637,-2.313 2.916,-1.949 3.146,-1.551 3.321,-1.127 3.44,-0.684 3.5,-0.229 3.5,0 3.5,0.229 3.44,0.684 3.321,1.127 3.146,1.551 2.916,1.949 2.637,2.313 2.313,2.637 1.949,2.916 1.551,3.146 1.127,3.321 0.684,3.44 0.229,3.5
Bottom Layer:
  pour cut-out: 0,3.5 -0.229,3.5 -0.684,3.44 -1.127,3.321 -1.551,3.146 -1.949,2.916 -2.313,2.637 -2.637,2.313 -2.916,1.949 -3.146,1.551 -3.321,1.127 -3.44,0.684 -3.5,0.229 -3.5,0 -3.5,-0.229 -3.44,-0.684 -3.321,-1.127 -3.146,-1.551 -2.916,-1.949 -2.637,-2.313 -2.313,-2.637 -1.949,-2.916 -1.551,-3.146 -1.127,-3.321 -0.684,-3.44 -0.229,-3.5 0,-3.5 0.229,-3.5 0.684,-3.44 1.127,-3.321 1.551,-3.146 1.949,-2.916 2.313,-2.637 2.637,-2.313 2.916,-1.949 3.146,-1.551 3.321,-1.127 3.44,-0.684 3.5,-0.229 3.5,0 3.5,0.229 3.44,0.684 3.321,1.127 3.146,1.551 2.916,1.949 2.637,2.313 2.313,2.637 1.949,2.916 1.551,3.146 1.127,3.321 0.684,3.44 0.229,3.5
Top Overlay:
  lines w0.4: -3.188,-0.854 cw(c0,0) -3.188,0.854 ; -2.858,-1.65 ccw(c0,0) -1.65,-2.858 ; -2.858,1.65 cw(c0,0) -1.65,2.858 ; -0.854,-3.188 ccw(c0,0) 0.854,-3.188 ; -0.854,3.188 cw(c0,0) 0.854,3.188 ; 1.65,-2.858 ccw(c0,0) 2.858,-1.65 ; 1.65,2.858 cw(c0,0) 2.858,1.65 ; 3.188,-0.854 ccw(c0,0) 3.188,0.854
3D body "screw_iso7045-m2_5x5-h.stp": height 2.35, standoff -4.7, extent -2.5,-2.5 2.5,2.5

## Screw-Panh-M2P5FT [mm] "Screw, hole diameter 2.7mm, PanHead 4mm"
pads (1):
  round 4 / inner round 3 / far side round 4 hole 2.7 mask+0.1: 1(0,0)
Top Layer:
  pour cut-out: 0,2.5 -0.246,2.5 -0.729,2.404 -1.184,2.215 -1.594,1.942 -1.942,1.594 -2.216,1.184 -2.404,0.729 -2.5,0.246 -2.5,0 -2.5,-0.246 -2.404,-0.729 -2.215,-1.184 -1.942,-1.594 -1.594,-1.942 -1.184,-2.215 -0.729,-2.404 -0.246,-2.5 0,-2.5 0.246,-2.5 0.729,-2.404 1.184,-2.215 1.594,-1.942 1.942,-1.594 2.215,-1.184 2.404,-0.729 2.5,-0.246 2.5,0 2.5,0.246 2.404,0.729 2.215,1.184 1.942,1.594 1.594,1.942 1.184,2.215 0.729,2.404 0.246,2.5
Bottom Layer:
  pour cut-out: 0,2.5 -0.246,2.5 -0.729,2.404 -1.184,2.215 -1.594,1.942 -1.942,1.594 -2.216,1.184 -2.404,0.729 -2.5,0.246 -2.5,0 -2.5,-0.246 -2.404,-0.729 -2.215,-1.184 -1.942,-1.594 -1.594,-1.942 -1.184,-2.215 -0.729,-2.404 -0.246,-2.5 0,-2.5 0.246,-2.5 0.729,-2.404 1.184,-2.215 1.594,-1.942 1.942,-1.594 2.215,-1.184 2.404,-0.729 2.5,-0.246 2.5,0 2.5,0.246 2.404,0.729 2.215,1.184 1.942,1.594 1.594,1.942 1.184,2.215 0.729,2.404 0.246,2.5
Top Overlay:
  lines w0.4: -2.222,-0.595 cw(c0,0) -2.222,0.595 ; -1.992,-1.15 ccw(c0,0) -1.15,-1.992 ; -1.992,1.15 cw(c0,0) -1.15,1.992 ; -0.595,-2.222 ccw(c0,0) 0.595,-2.222 ; -0.595,2.222 cw(c0,0) 0.595,2.222 ; 1.15,-1.992 ccw(c0,0) 1.992,-1.15 ; 1.15,1.992 cw(c0,0) 1.992,1.15 ; 2.222,-0.595 ccw(c0,0) 2.222,0.595
3D body "screw_iso7045-m2_5x5-h.stp": height 2.35, standoff -4.7, extent -2.5,-2.5 2.5,2.5